# Altium schematic symbol library SMBT3906.Schlib: 1 symbol
Pins are listed as number, name and electrical type; pins without a type are passive.

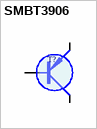
[diagram p0: symbol SMBT3906]

## SMBT3906
designator T?
SOT23    40V 0.2A 250MHz 3.5p(5V) 4dB
pins: 1 B, 2 E (oe), 3 C (oc)
1 alternate drawing of the same symbol